# Altium schematic symbol library MSL0402RGBU1.SchLib: 1 symbol
Pins are listed as number, name and electrical type; pins without a type are passive.

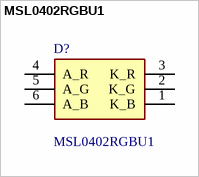
[diagram p0: symbol MSL0402RGBU1]

## MSL0402RGBU1
designator D?
Multi-Color LEDs RGB 624/527/470nm 5V 400/550/180mcd 30mA; Manufacturer_Name: ROHM Semiconductor; Geometry.Height: 0mm; Manufacturer_Part_Number: MSL0402RGBU1; Mouser Part Number: 755-MSL0402RGBU1; Mouser Price/Stock: https://www.mouser.co.uk/ProductDetail/ROHM-Semiconductor/MSL0402RGBU1?qs=4v%252BiZTmLVHE3LHOuFnEVGg%3D%3D; Arrow Part Number: *; Arrow Price/Stock: *; Datasheet Link: https://www.mouser.ph/ProductDetail/ROHM-Semiconductor/MSL0402RGBU1?qs=4v%252biZTmLVHE3LHOuFnEVGg%3D%3D
footprint MSL0402RGBU1
pins: 1 K_B, 2 K_G, 3 K_R, 4 A_R, 5 A_G, 6 A_B